# EAGLE library part CC1190 (library RF)
IC RF FRONT-END 16VQFN CC1190 <http://www.ti.com/product/CC1190> Datasheet <http://www.ti.com/lit/ds/symlink/cc1120.pdf>
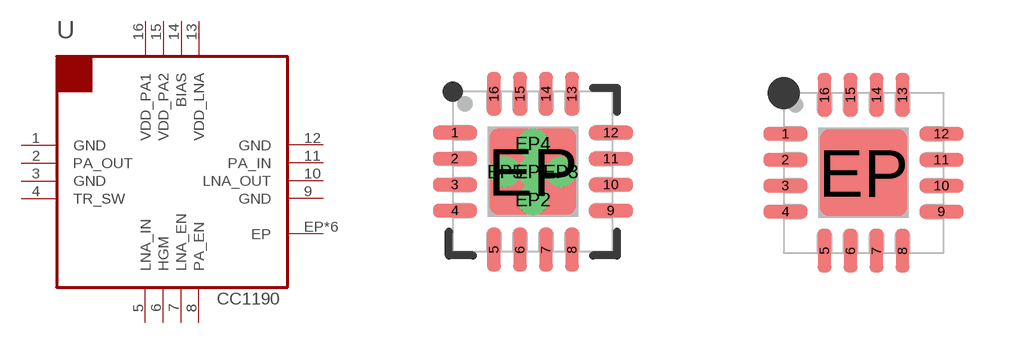
[diagram p6: symbol with the pads of S-PVQFN-N16; footprints S-PVQFN-N16, S-PVQFN-N16-EP]

Designator prefix U

## CC1190RGV-ALT (DATASHEET: https://media.digikey.com/pdf/Data%20Sheets/Texas%20Instruments%20PDFs/CC1190.pdf; DESC: IC RF FRONT-END 16VQFN; FREQ: 850MHz ~ 950MHz; MANF: Texas Instruments; MFPN: CC1190RGVR; PARTNO: 01-100549-00; STATUS: Active)  [S-PVQFN-N16]
1  GND  pwr
2  PA_OUT  pas
3  GND  pwr
4  TR_SW  pas
5  LNA_IN  pas
6  HGM  in
7  LNA_EN  in
8  PA_EN  in
9  GND  pwr
10  LNA_OUT  pas
11  PA_IN  pas
12  GND  pwr
13  VDD_LNA  pwr
14  BIAS  pas
15  VDD_PA2  pwr
16  VDD_PA1  pwr
EP  EP  pwr
EP1  EP  pwr
EP2  EP  pwr
EP3  EP  pwr
EP4  EP  pwr
EP5  EP  pwr

## CC1190RGV (DATASHEET: https://media.digikey.com/pdf/Data%20Sheets/Texas%20Instruments%20PDFs/CC1190.pdf; DESC: IC RF FRONT-END 16VQFN; FREQ: 850MHz ~ 950MHz; MANF: Texas Instruments; MFPN: CC1190RGVR; PARTNO: 01-100549-00; STATUS: Active)  [S-PVQFN-N16-EP]
1  GND  pwr
2  PA_OUT  pas
3  GND  pwr
4  TR_SW  pas
5  LNA_IN  pas
6  HGM  in
7  LNA_EN  in
8  PA_EN  in
9  GND  pwr
10  LNA_OUT  pas
11  PA_IN  pas
12  GND  pwr
13  VDD_LNA  pwr
14  BIAS  pas
15  VDD_PA2  pwr
16  VDD_PA1  pwr
EP  EP  pwr

## Footprint S-PVQFN-N16 (pad centres in mm)
16 POS Plastic Quad Flatpack No-Lead Texas Instruments RGV Changelog: 09/15/15: Created for CC2592
smd 1.1 x 0.35: 1 -1.95,0.975; 2 -1.95,0.325; 3 -1.95,-0.325; 4 -1.95,-0.975; 9 1.95,-0.975; 10 1.95,-0.325; 11 1.95,0.325; 12 1.95,0.975
smd 0.35 x 1.1: 5 -0.975,-1.95; 6 -0.325,-1.95; 7 0.325,-1.95; 8 0.975,-1.95; 13 0.975,1.95; 14 0.325,1.95; 15 -0.325,1.95; 16 -0.975,1.95
smd 2.16 x 2.16: EP 0,0
drill 0.254 pad 0.406: EP1 0,0; EP2 0,-0.7; EP3 0.7,0; EP4 0,0.7; EP5 -0.7,0

## Footprint S-PVQFN-N16-EP (pad centres in mm)
16 POS Plastic Quad Flatpack No-Lead Texas Instruments RGV Changelog: 09/15/15: Created for CC2592 (fits CC1190)
smd 1.1 x 0.35: 1 -1.95,0.975; 2 -1.95,0.325; 3 -1.95,-0.325; 4 -1.95,-0.975; 9 1.95,-0.975; 10 1.95,-0.325; 11 1.95,0.325; 12 1.95,0.975
smd 0.35 x 1.1: 5 -0.975,-1.95; 6 -0.325,-1.95; 7 0.325,-1.95; 8 0.975,-1.95; 13 0.975,1.95; 14 0.325,1.95; 15 -0.325,1.95; 16 -0.975,1.95
smd 2.16 x 2.16: EP 0,0